# Altium schematic symbol library MyLibs_Memory.SchLib: 4 symbols
Pins are listed as number, name and electrical type; pins without a type are passive.

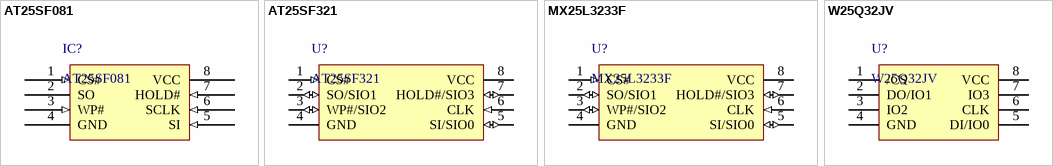
[diagram p0: symbols AT25SF081 to W25Q32JV]

## AT25SF081
designator IC?
8-Mbit, 2.3V Minimum SPI Serial Flash Memory, Compatible with Macronix MX25V8006E memories
pins: 1 CS# (in), 2 SO, 3 WP# (in), 4 GND (power), 5 SI (in), 6 SCLK (in), 7 HOLD# (in), 8 VCC (power)

## AT25SF321
designator U?
32-Mbit, 2.5V Minimum SPI Serial Flash Memory with Dual-I/O and Quad-IO Support
pins: 1 CS# (in), 2 SO/SIO1 (io), 3 WP#/SIO2 (io), 4 GND (power), 5 SI/SIO0 (io), 6 CLK (in), 7 HOLD#/SIO3 (io), 8 VCC (power)

## MX25L3233F
designator U?
32-Mbit [x1 / x2 / x4] CMOS MXSMIO® (Serial Multi I/O) Flash Memory. Packages: 8-SOP, 8-USON, 8-WSON
pins: 1 CS# (in), 2 SO/SIO1 (io), 3 WP#/SIO2 (io), 4 GND (power), 5 SI/SIO0 (io), 6 CLK (in), 7 HOLD#/SIO3 (io), 8 VCC (power)

## W25Q32JV
designator U?
32-Mbit, 3V Serial Flash Memory With Dual, Quad SPI. Packages: SOIC-8, VSOP-8, WSON-8, XSON-8
pins: 1 /CS, 2 DO/IO1, 3 IO2, 4 GND, 5 DI/IO0, 6 CLK, 7 IO3, 8 VCC